# Altium footprint library SG__PCB_HOLEs.PcbLib: 39 footprints (part 2 of 3)
Each footprint in its own frame and in the unit in brackets; x right, y up, seen from the top. Pads: shape width x height; smd on the part's side, far side on the other; paste and mask are expansions set on the pad; w line width, h text height; cw(c..) or ccw(c..) is an arc to the next point about the centre after c.
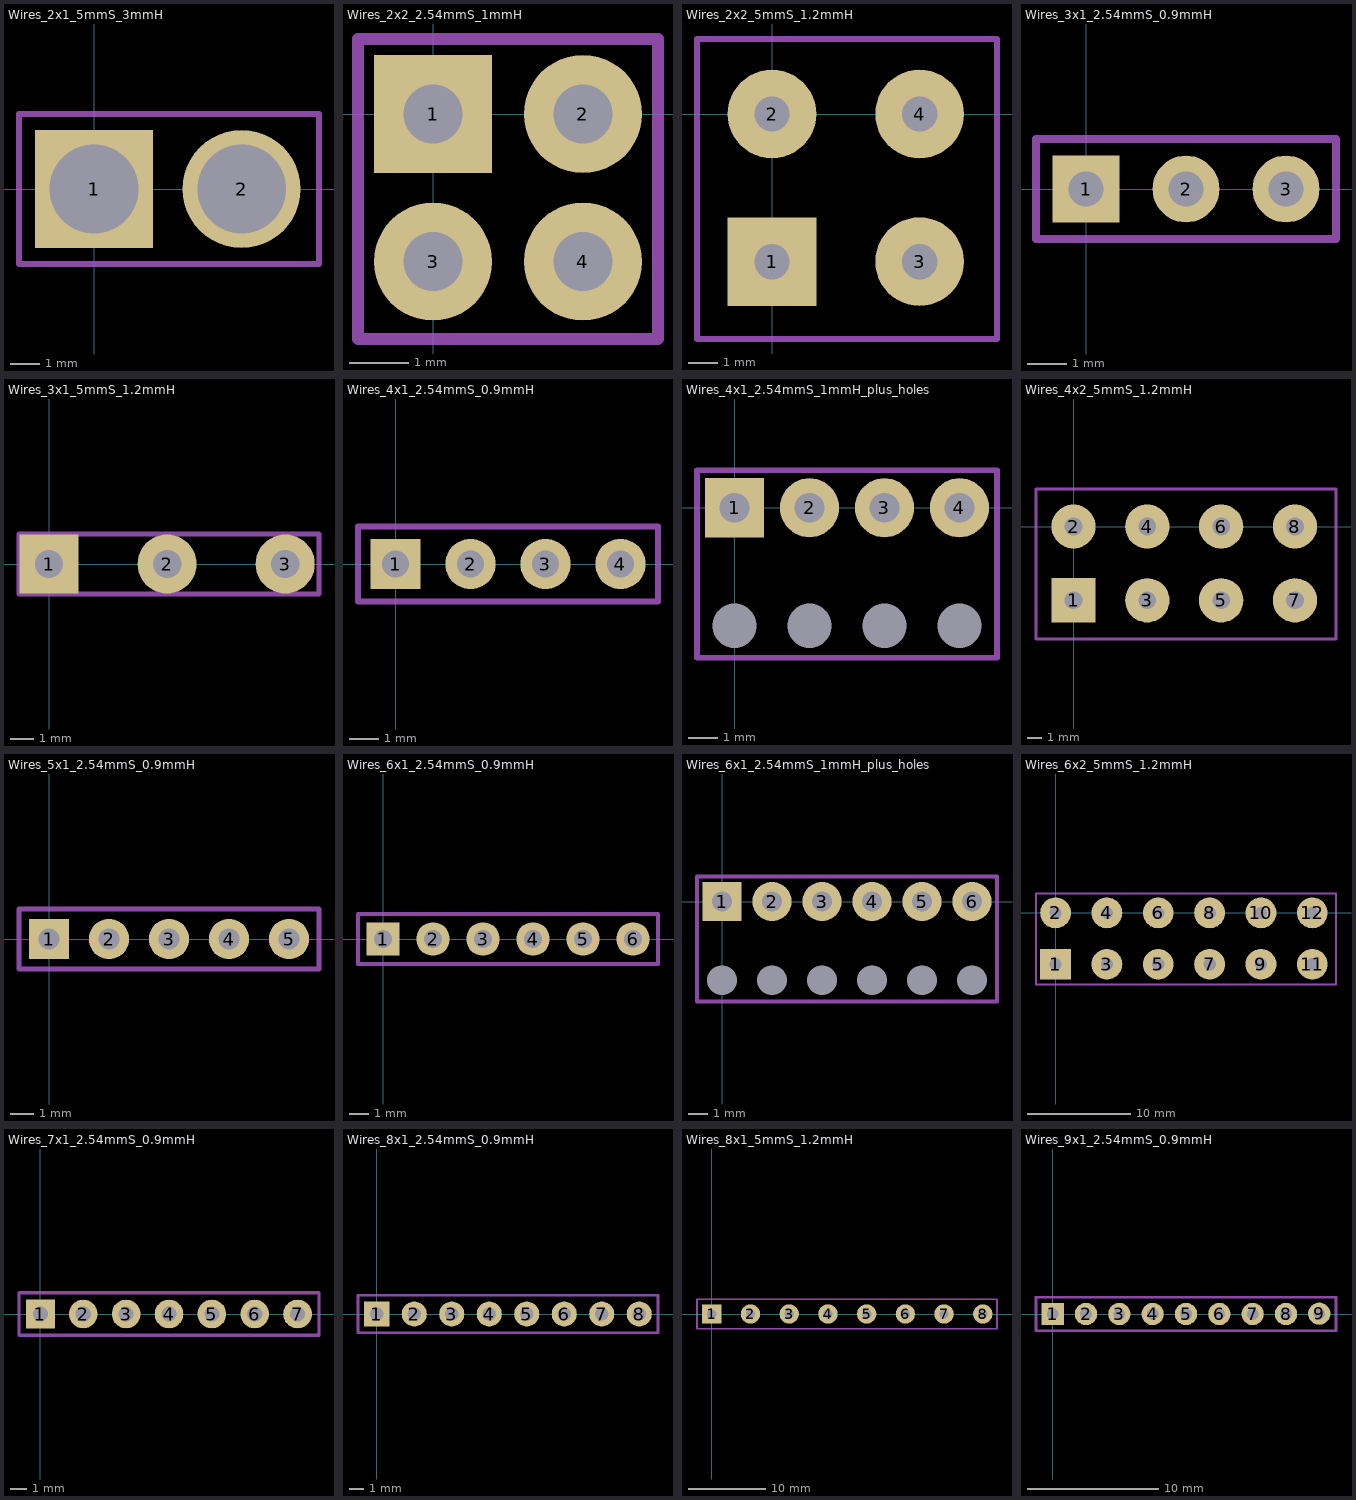
[diagram p1: the footprints below, top view; thin cyan lines are the x and y axes]

## Wires_2x1_5mmS_3mmH [mm] "Wires_AxB_XmmSpacing_YmmHole"
pads (2):
  rect 4x4 hole 3: 1(0,0)
  round 4 hole 3: 2(5,0)
Top Courtyard:
  lines w0.2: -2.54,-2.54 7.62,-2.54 7.62,2.54 -2.54,2.54 -2.54,-2.54

## Wires_2x2_2.54mmS_1mmH [mm]
height 12
pads (4):
  rect 2x2 hole 1: 1(0,0)
  round 2 hole 1: 2(2.54,0) 3(0,-2.5) 4(2.54,-2.5)
Top Courtyard:
  lines w0.2: -1.27,-3.81 3.81,-3.81 3.81,1.27 -1.27,1.27 -1.27,-3.81

## Wires_2x2_5mmS_1.2mmH [mm] "Wires_AxB_XmmSpacing_YmmHole"
pads (4):
  rect 3x3 hole 1.2: 1(0,-5)
  round 3 hole 1.2: 2(0,0) 3(5,-5) 4(5,0)
Top Courtyard:
  lines w0.2: -2.54,-7.62 7.62,-7.62 7.62,2.54 -2.54,2.54 -2.54,-7.62

## Wires_3x1_2.54mmS_0.9mmH [mm]
pads (3):
  rect 1.7x1.7 hole 0.9: 1(0,0)
  round 1.7 hole 0.9: 2(2.54,0) 3(5.08,0)
Top Courtyard:
  lines w0.2: -1.27,-1.27 6.35,-1.27 6.35,1.27 -1.27,1.27 -1.27,-1.27

## Wires_3x1_5mmS_1.2mmH [mm] "Wires_AxB_XmmSpacing_YmmHole"
pads (3):
  rect 2.5x2.5 hole 1.2: 1(0,0)
  round 2.5 hole 1.2: 2(5,0) 3(10,0)
Top Courtyard:
  lines w0.2: -1.27,-1.27 11.43,-1.27 11.43,1.27 -1.27,1.27 -1.27,-1.27

## Wires_4x1_2.54mmS_0.9mmH [mm]
pads (4):
  rect 1.7x1.7 hole 0.9: 1(0,0)
  round 1.7 hole 0.9: 2(2.54,0) 3(5.08,0) 4(7.62,0)
Top Courtyard:
  lines w0.2: -1.27,-1.27 8.89,-1.27 8.89,1.27 -1.27,1.27 -1.27,-1.27

## Wires_4x1_2.54mmS_1mmH_plus_holes [mm]
pads (8):
  round 0 hole 1.5 unplated: 0(0,-4) 0(2.54,-4) 0(5.08,-4) 0(7.62,-4)
  rect 2x2 hole 1: 1(0,0)
  round 2 hole 1: 2(2.54,0) 3(5.08,0) 4(7.62,0)
Top Courtyard:
  lines w0.2: -1.27,-5.08 8.89,-5.08 8.89,1.27 -1.27,1.27 -1.27,-5.08

## Wires_4x2_5mmS_1.2mmH [mm] "Wires_AxB_XmmSpacing_YmmHole"
pads (8):
  rect 3x3 hole 1.2: 1(0,-5)
  round 3 hole 1.2: 2(0,0) 3(5,-5) 4(5,0) 5(10,-5) 6(10,0) 7(15,-5) 8(15,0)
Top Courtyard:
  lines w0.2: -2.54,-7.62 17.78,-7.62 17.78,2.54 -2.54,2.54 -2.54,-7.62

## Wires_5x1_2.54mmS_0.9mmH [mm]
pads (5):
  rect 1.7x1.7 hole 0.9 mask+0.05: 1(0,0)
  round 1.7 hole 0.9 mask+0.05: 2(2.54,0) 3(5.08,0) 4(7.62,0) 5(10.16,0)
Top Courtyard:
  lines w0.2: -1.27,-1.27 11.43,-1.27 11.43,1.27 -1.27,1.27 -1.27,-1.27

## Wires_6x1_2.54mmS_0.9mmH [mm]
pads (6):
  rect 1.7x1.7 hole 0.9 mask+0.05: 1(0,0)
  round 1.7 hole 0.9 mask+0.05: 2(2.54,0) 3(5.08,0) 4(7.62,0) 5(10.16,0) 6(12.7,0)
Top Courtyard:
  lines w0.2: -1.27,-1.27 13.97,-1.27 13.97,1.27 -1.27,1.27 -1.27,-1.27

## Wires_6x1_2.54mmS_1mmH_plus_holes [mm]
pads (12):
  round 0 hole 1.5 unplated: 0(0,-4) 0(2.54,-4) 0(5.08,-4) 0(7.62,-4) 0(10.16,-4) 0(12.7,-4)
  rect 2x2 hole 1: 1(0,0)
  round 2 hole 1: 2(2.54,0) 3(5.08,0) 4(7.62,0) 5(10.16,0) 6(12.7,0)
Top Courtyard:
  lines w0.2: -1.27,-5.08 13.97,-5.08 13.97,1.27 -1.27,1.27 -1.27,-5.08

## Wires_6x2_5mmS_1.2mmH [mm] "Wires_AxB_XmmSpacing_YmmHole"
pads (12):
  rect 3x3 hole 1.2: 1(0,-5)
  round 3 hole 1.2: 2(0,0) 3(5,-5) 4(5,0) 5(10,-5) 6(10,0) 7(15,-5) 8(15,0) 9(20,-5) 10(20,0) 11(25,-5) 12(25,0)
Top Courtyard:
  lines w0.2: -1.905,-6.985 27.305,-6.985 27.305,1.905 -1.905,1.905 -1.905,-6.985

## Wires_7x1_2.54mmS_0.9mmH [mm]
pads (7):
  rect 1.7x1.7 hole 0.9 mask+0.05: 1(0,0)
  round 1.7 hole 0.9 mask+0.05: 2(2.54,0) 3(5.08,0) 4(7.62,0) 5(10.16,0) 6(12.7,0) 7(15.24,0)
Top Courtyard:
  lines w0.2: -1.27,-1.27 16.51,-1.27 16.51,1.27 -1.27,1.27 -1.27,-1.27

## Wires_8x1_2.54mmS_0.9mmH [mm]
pads (8):
  rect 1.7x1.7 hole 0.9: 1(0,0)
  round 1.7 hole 0.9: 2(2.54,0) 3(5.08,0) 4(7.62,0) 5(10.16,0) 6(12.7,0) 7(15.24,0) 8(17.78,0)
Top Courtyard:
  lines w0.2: -1.27,-1.27 19.05,-1.27 19.05,1.27 -1.27,1.27 -1.27,-1.27

## Wires_8x1_5mmS_1.2mmH [mm] "Wires_AxB_XmmSpacing_YmmHole"
pads (8):
  rect 2.5x2.5 hole 1.2: 1(0,0)
  round 2.5 hole 1.2: 2(5,0) 3(10,0) 4(15,0) 5(20,0) 6(25,0) 7(30,0) 8(35,0)
Top Courtyard:
  lines w0.2: -1.905,-1.905 36.83,-1.905 36.83,1.905 -1.905,1.905 -1.905,-1.905

## Wires_9x1_2.54mmS_0.9mmH [mm]
pads (9):
  rect 1.7x1.7 hole 0.9: 1(0,0)
  round 1.7 hole 0.9: 2(2.54,0) 3(5.08,0) 4(7.62,0) 5(10.16,0) 6(12.7,0) 7(15.24,0) 8(17.78,0) 9(20.315,0.025)
Top Courtyard:
  lines w0.2: -1.27,-1.27 21.59,-1.27 21.59,1.27 -1.27,1.27 -1.27,-1.27